# Altium footprint library XT60PWF.PcbLib: 1 footprints
Each footprint in its own frame and in the unit in brackets; x right, y up, seen from the top. Pads: shape width x height; smd on the part's side, far side on the other; paste and mask are expansions set on the pad; w line width, h text height; cw(c..) or ccw(c..) is an arc to the next point about the centre after c.
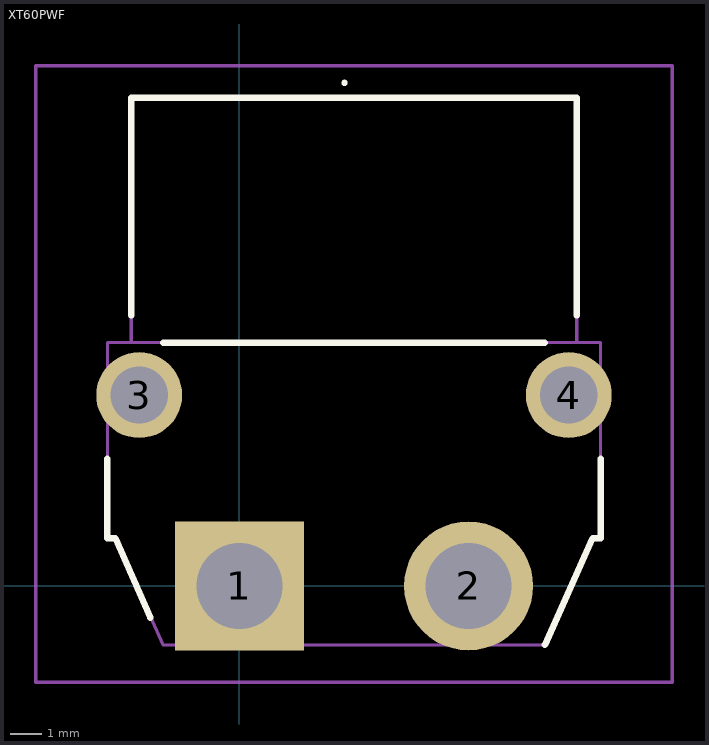
[diagram p0: the footprint, top view; thin cyan lines are the x and y axes]

## XT60PWF [mm]
pads (4):
  rect 4.05x4.05 hole 2.7: 1(0,0)
  round 4.05 hole 2.7: 2(7.2,0)
  round 2.7 hole 1.8: 3(-3.15,6) 4(10.35,6)
Top Overlay:
  lines w0.1: 3.302,15.765 cw(c3.302,15.815) 3.302,15.865 cw(c3.302,15.815) 3.302,15.765
  lines w0.2: -4.15,4 -4.15,1.5 -3.9,1.5 -2.8,-1 ; -3.4,8.5 -3.4,15.35 10.6,15.35 10.6,8.5 ; -2.4,7.65 9.6,7.65 ; 9.6,-1.85 11.1,1.5 11.35,1.5 11.35,4
Mechanical 15:
  lines w0.1: -3.4,7.65 -3.4,15.35 10.6,15.35 10.6,7.65 ; -4.15,1.5 -4.15,7.65 11.35,7.65 11.35,5 11.35,3.5 11.35,1.5 11.1,1.5 9.6,-1.85 4.6,-1.85 -2.4,-1.85 -3.9,1.5 -4.15,1.5
Mechanical 20:
  lines w0.1: -6.4,-3.025 -6.4,16.35 13.6,16.35 13.6,-3.025 -6.4,-3.025
3D body "XT60PW-F.stp": height 8.4, standoff -2.55, extent -4.324,-1.905 11.176,15.295